# Altium footprint library PCB - CONNECTOR - AMPHENOL - AMPHENOL 031-5637.PcbLib: 1 footprints
Each footprint in its own frame and in the unit in brackets; x right, y up, seen from the top. Pads: shape width x height; smd on the part's side, far side on the other; paste and mask are expansions set on the pad; w line width, h text height; cw(c..) or ccw(c..) is an arc to the next point about the centre after c.
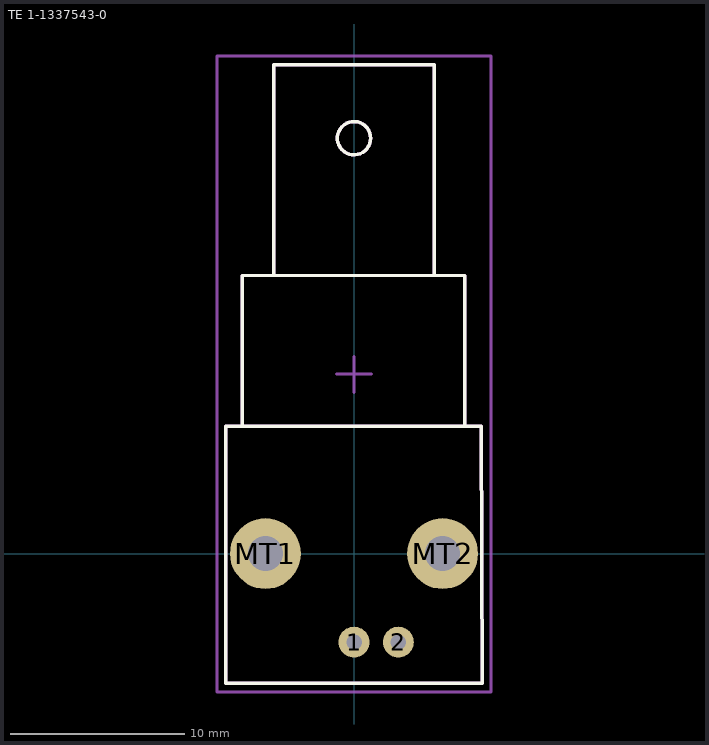
[diagram p0: the footprint, top view; thin cyan lines are the x and y axes]

## TE 1-1337543-0 [mil] "BNC R/A TH Jack Bulkhead 50 ohm"
height 622.05
pads (4):
  round 70 hole 35: 1(0,-200) 2(100,-200)
  round 160 hole 79: MT1(-200,0) MT2(200,0)
Top Overlay:
  circle w7.87: c0,938 r37.6
  lines w7.87: -251.96,287.4 -251.96,627.95 -181.1,627.95 ; 216.54,627.95 -181.1,627.95 ; 250,287.4 250,627.95 181.1,627.95 181.1,1104.34 -181.1,1104.34 -181.1,627.95 ; -289.36,-293.3 289.38,-293.3 287.4,287.4 -289.36,287.4 -289.36,-293.3
Top Assembly:
  circle w7.87: c0,938 r37.6
  lines w7.87: -251.96,287.4 -251.96,627.95 -181.1,627.95 ; 216.54,627.95 -181.1,627.95 ; 250,287.4 250,627.95 181.1,627.95 181.1,1104.34 -181.1,1104.34 -181.1,627.95 ; -289.36,-293.3 -289.36,287.4 287.4,287.4 289.38,-293.3 -289.36,-293.3
Top Courtyard:
  lines w7: -39.37,405.52 39.37,405.52 ; -0.98,405.52 -0.05,405.52 -0.05,444.89 ; -0.05,364.17 -0.05,403.54 ; -309.06,-312.98 -309.05,1124.02 308.94,1124.02 308.94,-312.98 -309.06,-312.98
3D body "TE - 1-1337543-0.step": height 607.48, standoff -183.86, extent -289.36,-293.3 289.38,1104.34